# Altium footprint library IXTA6N100D2.PcbLib: 1 footprints
Each footprint in its own frame and in the unit in brackets; x right, y up, seen from the top. Pads: shape width x height; smd on the part's side, far side on the other; paste and mask are expansions set on the pad; w line width, h text height; cw(c..) or ccw(c..) is an arc to the next point about the centre after c.
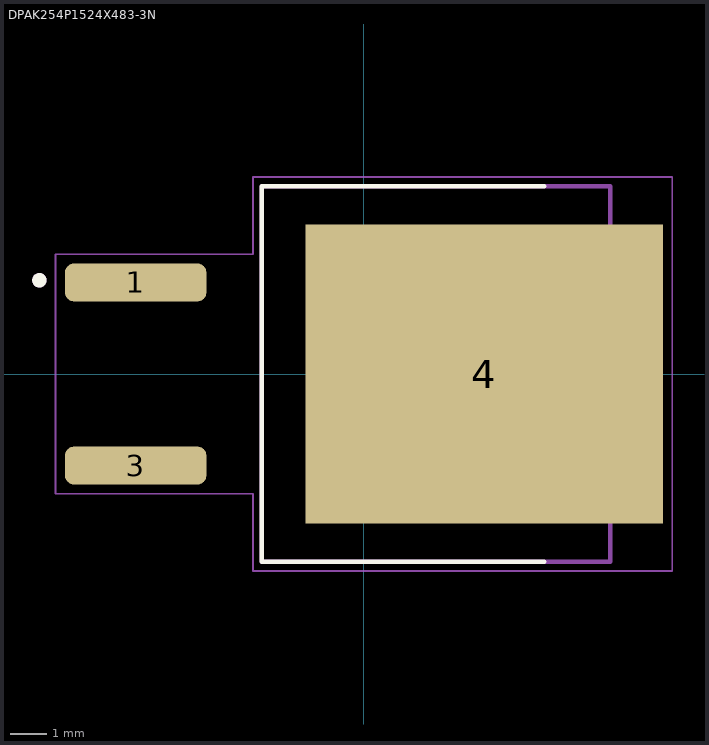
[diagram p0: the footprint, top view; thin cyan lines are the x and y axes]

## DPAK254P1524X483-3N [mm]
pads (3):
  rrect50% 3.93x1.06 smd: 1(-6.33,2.54) 3(-6.33,-2.54)
  rect 9.91x8.3 smd paste-6 mask+0: 4(3.34,0)
Top Overlay:
  circle w0.2: c-9,2.6 r0.1
  lines w0.127: 5,-5.21 -2.828,-5.21 -2.828,5.21 5,5.21
Mechanical 13:
  circle w0.2: c-9,2.6 r0.1
  lines w0.127: -2.828,-5.21 -2.828,5.21 6.833,5.21 6.833,-5.21 -2.828,-5.21
Mechanical 15:
  lines w0.05: -8.55,-3.32 -3.08,-3.32 -3.08,-5.46 8.55,-5.46 8.55,5.46 -3.08,5.46 -3.08,3.32 -8.55,3.32 -8.55,-3.32
3D body "step_temp.STEP": height 4.7, standoff 0, extent -7.874,-5.08 7.366,4.95